# Altium footprint library 82 RESISTORS_THD_AX14_8mm_P.PcbLib: 9 footprints
Each footprint in its own frame and in the unit in brackets; x right, y up, seen from the top. Pads: shape width x height; smd on the part's side, far side on the other; paste and mask are expansions set on the pad; w line width, h text height; cw(c..) or ccw(c..) is an arc to the next point about the centre after c.
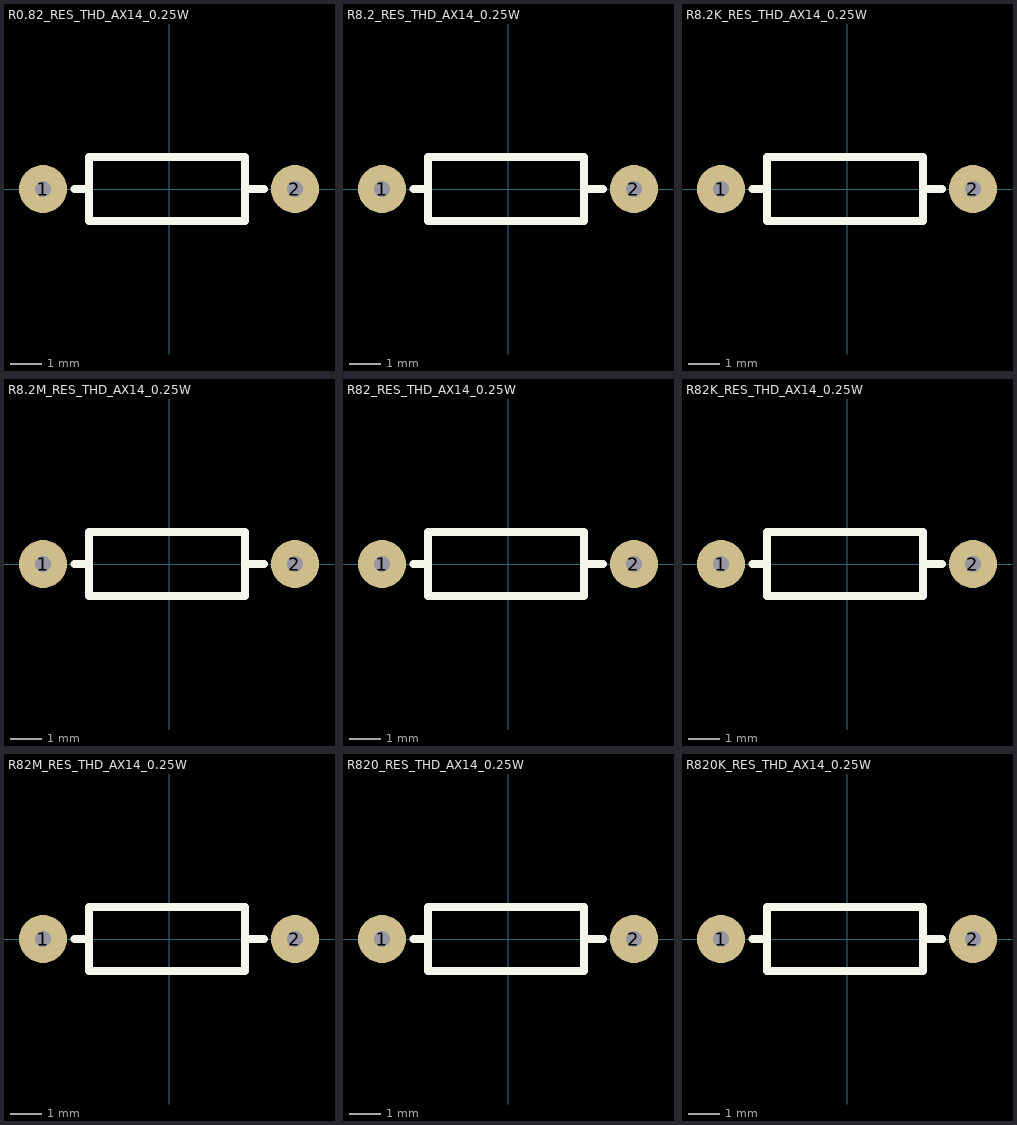
[diagram p0: the footprints below, top view; thin cyan lines are the x and y axes]

## R0.82_RES_THD_AX14_0.25W [mil] "RESISTOR 0.82 Ohm  THD AX14 0.25W Length  8mm"
pads (2):
  round 60 hole 19.68: 1(-157.48,0) 2(157.48,0)
Top Overlay:
  lines w10: -118.28,0 -100.6,0 ; 95,0 118.49,0 ; -100,-40 -100,40 95,40 95,-40 -100,-40
3D body "RES_THD_ASR_ASRM_0.82.STEP": height 96.5, standoff -96.46, extent -167.32,-45.33 167.32,45.33

## R8.2_RES_THD_AX14_0.25W [mil] "RESISTOR 8.2 Ohm  THD AX14 0.25W Length  8mm"
pads (2):
  round 60 hole 19.68: 1(-157.48,0) 2(157.48,0)
Top Overlay:
  lines w10: -118.28,0 -100.6,0 ; 95,0 118.49,0 ; -100,-40 95,-40 95,40 -100,40 -100,-40
3D body "RES_THD_ASR_ASRM_8.2.STEP": height 96.5, standoff -96.46, extent -167.32,-45.33 167.32,45.33

## R8.2K_RES_THD_AX14_0.25W [mil] "RESISTOR 8.2K Ohm  THD AX14 0.25W Length  8mm"
pads (2):
  round 60 hole 19.68: 1(-157.48,0) 2(157.48,0)
Top Overlay:
  lines w10: -118.28,0 -100.6,0 ; 95,0 118.49,0 ; -100,-40 -100,40 95,40 95,-40 -100,-40
3D body "RES_THD_ASR_ASRM_8.2K.STEP": height 96.5, standoff -96.46, extent -167.32,-45.33 167.32,45.33

## R8.2M_RES_THD_AX14_0.25W [mil] "RESISTOR 8.2M Ohm  THD AX14 0.25W Length  8mm"
pads (2):
  round 60 hole 19.68: 1(-157.48,0) 2(157.48,0)
Top Overlay:
  lines w10: -118.28,0 -100.6,0 ; 95,0 118.49,0 ; -100,-40 -100,40 95,40 95,-40 -100,-40
3D body "RES_THD_ASR_ASRM_8.2M.STEP": height 96.5, standoff -96.46, extent -167.32,-45.33 167.32,45.33

## R82_RES_THD_AX14_0.25W [mil] "RESISTOR 82 Ohm  THD AX14 0.25W Length  8mm"
pads (2):
  round 60 hole 19.68: 1(-157.48,0) 2(157.48,0)
Top Overlay:
  lines w10: -118.28,0 -100.6,0 ; 95,0 118.49,0 ; -100,-40 95,-40 95,40 -100,40 -100,-40
3D body "RES_THD_ASR_ASRM_82.STEP": height 96.5, standoff -96.46, extent -167.32,-45.33 167.32,45.33

## R82K_RES_THD_AX14_0.25W [mil] "RESISTOR 82K Ohm  THD AX14 0.25W Length  8mm"
pads (2):
  round 60 hole 19.68: 1(-157.48,0) 2(157.48,0)
Top Overlay:
  lines w10: -118.28,0 -100.6,0 ; 95,0 118.49,0 ; -100,-40 95,-40 95,40 -100,40 -100,-40
3D body "RES_THD_ASR_ASRM_82K.STEP": height 96.5, standoff -96.46, extent -167.32,-45.33 167.32,45.33

## R82M_RES_THD_AX14_0.25W [mil] "RESISTOR 82M Ohm  THD AX14 0.25W Length  8mm"
pads (2):
  round 60 hole 19.68: 1(-157.48,0) 2(157.48,0)
Top Overlay:
  lines w10: -118.28,0 -100.6,0 ; 95,0 118.49,0 ; -100,-40 -100,40 95,40 95,-40 -100,-40
3D body "RES_THD_ASR_ASRM_82M.STEP": height 96.5, standoff -96.46, extent -167.32,-45.33 167.32,45.33

## R820_RES_THD_AX14_0.25W [mil] "RESISTOR 820 Ohm  THD AX14 0.25W Length  8mm"
pads (2):
  round 60 hole 19.68: 1(-157.48,0) 2(157.48,0)
Top Overlay:
  lines w10: -118.28,0 -100.6,0 ; 95,0 118.49,0 ; -100,-40 95,-40 95,40 -100,40 -100,-40
3D body "RES_THD_ASR_ASRM_820.STEP": height 96.5, standoff -96.46, extent -167.32,-45.33 167.32,45.33

## R820K_RES_THD_AX14_0.25W [mil] "RESISTOR 820K Ohm  THD AX14 0.25W Length  8mm"
pads (2):
  round 60 hole 19.68: 1(-157.48,0) 2(157.48,0)
Top Overlay:
  lines w10: -118.28,0 -100.6,0 ; 95,0 118.49,0 ; -100,-40 95,-40 95,40 -100,40 -100,-40
3D body "RES_THD_ASR_ASRM_820K.STEP": height 96.5, standoff -96.46, extent -167.32,-45.33 167.32,45.33